# Altium footprint library HX2.54.PcbLib: 1 footprints
Each footprint in its own frame and in the unit in brackets; x right, y up, seen from the top. Pads: shape width x height; smd on the part's side, far side on the other; paste and mask are expansions set on the pad; w line width, h text height; cw(c..) or ccw(c..) is an arc to the next point about the centre after c.
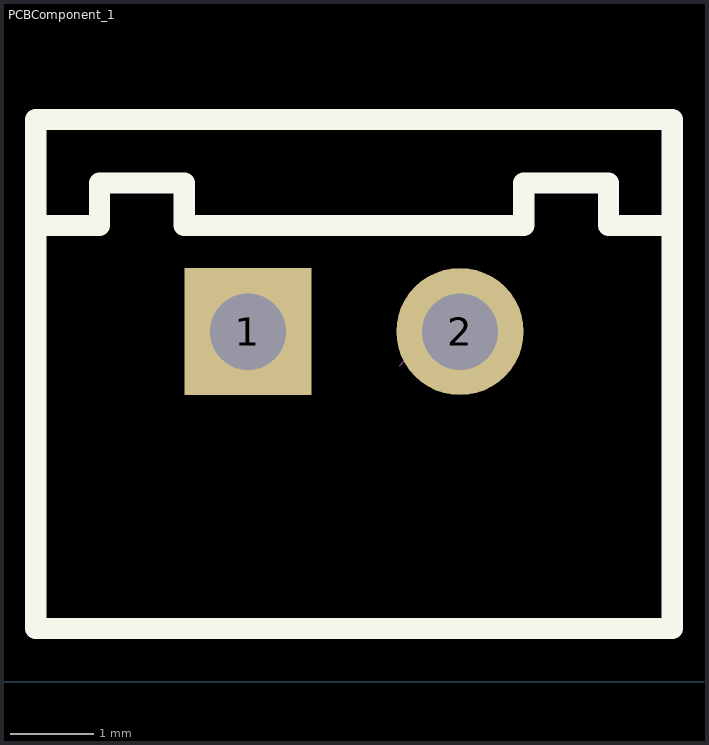
[diagram p0: the footprint, top view; thin cyan lines are the x and y axes]

## PCBComponent_1 [mil]
pads (2):
  rect 60x60 hole 36: 1(855,165)
  round 60 hole 36: 2(955,165)
Top Overlay:
  lines w10: 755,215 785,215 785,235 825,235 825,215 985,215 985,235 1025,235 1025,215 1055,215 ; 755,25 1055,25 1055,265 755,265 755,25
Mechanical 15:
  lines w0.1: 926.5,149 928.5,151